# Altium schematic symbol library STM32_Smart.SchLib: 3 symbols
Pins are listed as number, name and electrical type; pins without a type are passive.

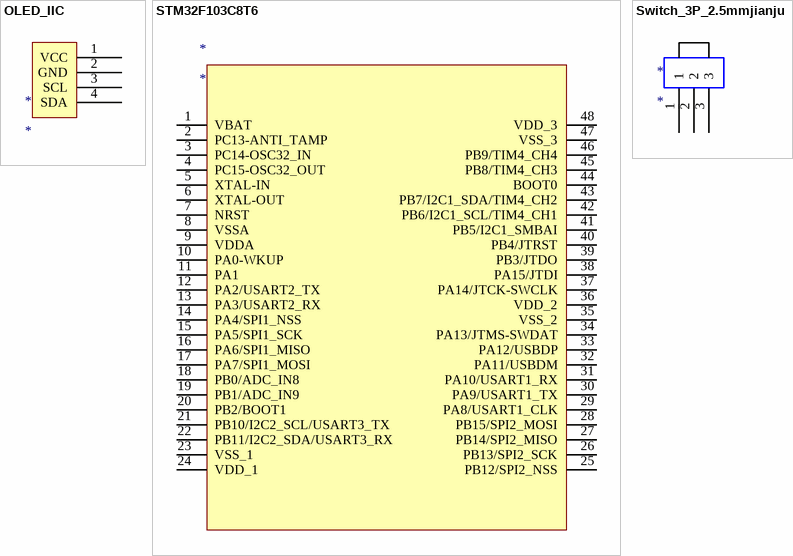
[diagram p0: symbols OLED_IIC to Switch_3P_2.5mmjianju]

## OLED_IIC
designator *
footprint OLED_IIC
pins: 1 VCC, 2 GND, 3 SCL, 4 SDA

## STM32F103C8T6
designator *
pins: 1 VBAT, 2 PC13-ANTI_TAMP, 3 PC14-OSC32_IN, 4 PC15-OSC32_OUT, 5 XTAL-IN, 6 XTAL-OUT, 7 NRST, 8 VSSA, 9 VDDA, 10 PA0-WKUP, 11 PA1, 12 PA2/USART2_TX, 13 PA3/USART2_RX, 14 PA4/SPI1_NSS, 15 PA5/SPI1_SCK, 16 PA6/SPI1_MISO, 17 PA7/SPI1_MOSI, 18 PB0/ADC_IN8, 19 PB1/ADC_IN9, 20 PB2/BOOT1, 21 PB10/I2C2_SCL/USART3_TX, 22 PB11/I2C2_SDA/USART3_RX, 23 VSS_1, 24 VDD_1, 25 PB12/SPI2_NSS, 26 PB13/SPI2_SCK, 27 PB14/SPI2_MISO, 28 PB15/SPI2_MOSI, 29 PA8/USART1_CLK, 30 PA9/USART1_TX, 31 PA10/USART1_RX, 32 PA11/USBDM, 33 PA12/USBDP, 34 PA13/JTMS-SWDAT, 35 VSS_2, 36 VDD_2, 37 PA14/JTCK-SWCLK, 38 PA15/JTDI, 39 PB3/JTDO, 40 PB4/JTRST, 41 PB5/I2C1_SMBAI, 42 PB6/I2C1_SCL/TIM4_CH1, 43 PB7/I2C1_SDA/TIM4_CH2, 44 BOOT0, 45 PB8/TIM4_CH3, 46 PB9/TIM4_CH4, 47 VSS_3, 48 VDD_3

## Switch_3P_2.5mmjianju
designator *
footprint Switch_3p_2.5mmjianju
pins: 1, 2, 3